# Altium footprint library Miscellaneous Devices LC.PcbLib: 559 footprints (part 20 of 35)
Each footprint in its own frame and in the unit in brackets; x right, y up, seen from the top. Pads: shape width x height; smd on the part's side, far side on the other; paste and mask are expansions set on the pad; w line width, h text height; cw(c..) or ccw(c..) is an arc to the next point about the centre after c.
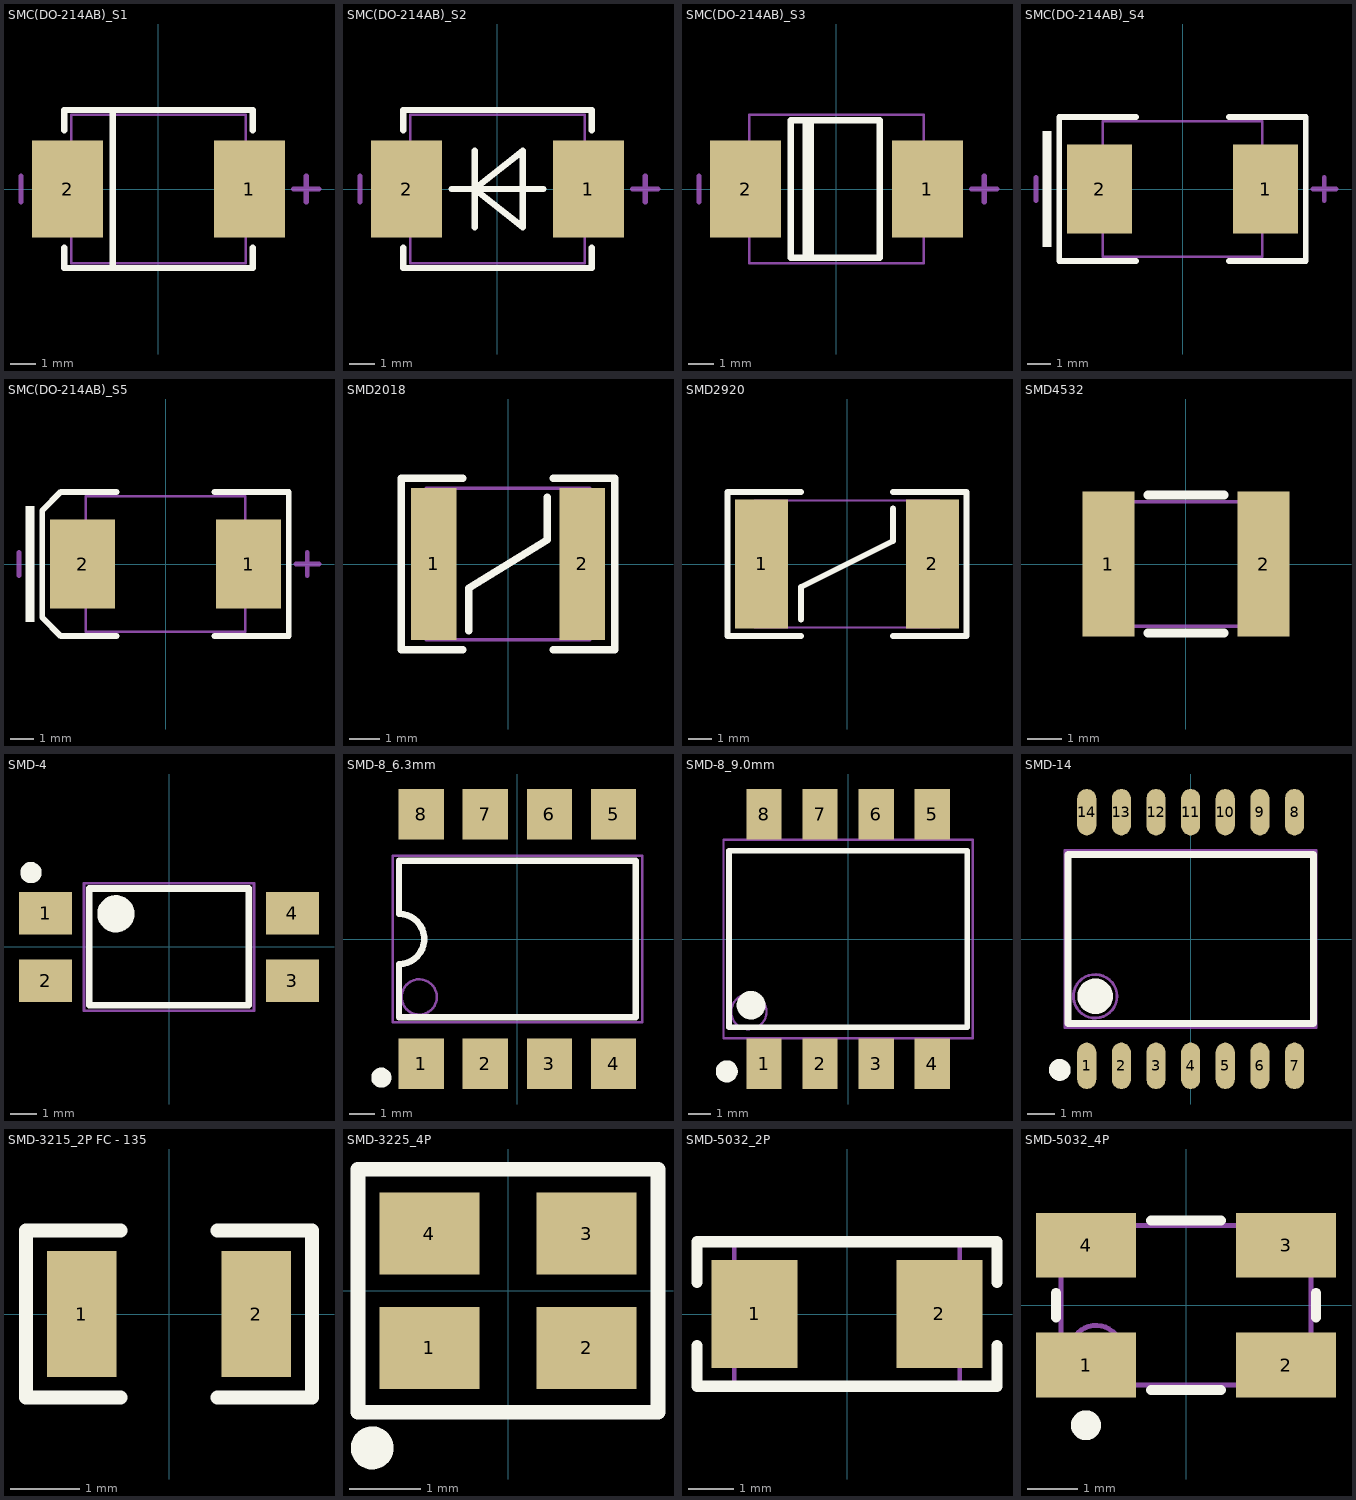
[diagram p19: the footprints below, top view; thin cyan lines are the x and y axes]

## SMC(DO-214AB)_S1 [mil]
pads (2):
  rect 110x150 smd: 1(140.49,0) 2(-140.49,0)
Top Overlay:
  lines w10: -145.67,-90.55 -145.67,-122.05 145.67,-122.05 145.67,-90.55 ; -145.67,90.55 -145.67,122.05 145.67,122.05 145.67,90.55 ; -70.87,-122.05 -70.87,122.05
Mechanical 13:
  lines w3.94: -135.04,-114.96 -135.04,114.96 135.04,114.96 135.04,-114.96 -135.04,-114.96
Mechanical 15:
  lines w8: -212.6,-19.68 -212.6,19.68 ; 208.66,0 248.03,0 ; 228.35,-19.68 228.35,19.68

## SMC(DO-214AB)_S2 [mil]
pads (2):
  rect 110x150 smd: 1(140.49,0) 2(-140.49,0)
Top Overlay:
  lines w10: -145.67,-90.55 -145.67,-122.05 145.67,-122.05 145.67,-90.55 ; -145.67,90.55 -145.67,122.05 145.67,122.05 145.67,90.55 ; -70.87,0 70.87,0 ; -35.43,-59.06 -35.43,59.06 ; -35.43,0 39.37,-59.06 39.37,59.06 -35.43,0
Mechanical 13:
  lines w3.94: -135.04,-114.96 135.04,-114.96 135.04,114.96 -135.04,114.96 -135.04,-114.96
Mechanical 15:
  lines w8: -212.6,-19.68 -212.6,19.68 ; 208.66,0 248.03,0 ; 228.35,-19.68 228.35,19.68

## SMC(DO-214AB)_S3 [mil]
pads (2):
  rect 110x150 smd: 1(140.49,0) 2(-140.49,0)
Top Overlay:
  lines w10: -47.24,-106.3 -47.24,106.3 ; -39.37,-106.3 -39.37,106.3 ; -70.87,-106.3 66.93,-106.3 66.93,106.3 -70.87,106.3 -70.87,-106.3
Mechanical 13:
  lines w3.94: -135.04,-114.96 -135.04,114.96 135.04,114.96 135.04,-114.96 -135.04,-114.96
Mechanical 15:
  lines w8: -212.6,-19.68 -212.6,19.68 ; 208.66,0 248.03,0 ; 228.35,-19.68 228.35,19.68

## SMC(DO-214AB)_S4 [mil]
pads (2):
  rect 110x150 smd: 1(140.49,0) 2(-140.49,0)
Top Overlay:
  rectangle: -237.2,-98.43 -221.46,98.43
  lines w10: -78.74,-122.05 -208.66,-122.05 -208.66,122.05 -78.74,122.05 ; 78.74,-122.05 208.66,-122.05 208.66,122.05 78.74,122.05
Mechanical 13:
  lines w3.94: -135.04,-114.96 135.04,-114.96 135.04,114.96 -135.04,114.96 -135.04,-114.96
Mechanical 15:
  lines w8: -248.03,-19.68 -248.03,19.68 ; 220.47,0 259.84,0 ; 240.16,-19.68 240.16,19.68

## SMC(DO-214AB)_S5 [mil]
pads (2):
  rect 110x150 smd: 1(140.49,0) 2(-140.49,0)
Top Overlay:
  rectangle: -237.2,-98.43 -221.46,98.43
  lines w10: -82.68,-122.05 -177.17,-122.05 -208.66,-90.55 -208.66,90.55 -177.17,122.05 -82.68,122.05 ; 82.68,-122.05 208.66,-122.05 208.66,122.05 82.68,122.05
Mechanical 13:
  lines w3.94: -135.04,-114.96 -135.04,114.96 135.04,114.96 135.04,-114.96 -135.04,-114.96
Mechanical 15:
  lines w8: -248.03,-19.68 -248.03,19.68 ; 220.47,0 259.84,0 ; 240.16,-19.68 240.16,19.68

## SMD2018 [mm]
pads (2):
  rect 1.5x5 smd: 1(-2.45,0) 2(2.45,0)
Top Overlay:
  lines w0.254: -1.5,-2.825 -3.525,-2.825 -3.525,2.825 -1.5,2.825 ; -1.3,-2.2 -1.3,-0.8 1.3,0.8 1.3,2.2 ; 1.5,-2.825 3.525,-2.825 3.525,2.825 1.5,2.825
Mechanical 13:
  lines w0.1: -2.7,-2.5 -2.7,2.5 2.7,2.5 2.7,-2.5 -2.7,-2.5

## SMD2920 [mm]
pads (2):
  rect 2.3x5.6 smd: 1(-3.7,0) 2(3.7,0)
Top Overlay:
  lines w0.254: -2,-3.125 -5.175,-3.125 -5.175,3.125 -2,3.125 ; -2,-2.4 -2,-1 2,1 2,2.4 ; 2,-3.125 5.175,-3.125 5.175,3.125 2,3.125
Mechanical 13:
  lines w0.1: -4,-2.75 -4,2.75 4,2.75 4,-2.75 -4,-2.75

## SMD4532 [mm]
pads (2):
  rect 1.5x4.2 smd: 1(-2.25,0) 2(2.25,0)
Top Overlay:
  lines w0.254: -1.1,-2 1.1,-2 ; -1.1,2 1.1,2
Mechanical 13:
  lines w0.1: -2.4,-1.8 -2.4,1.8 2.4,1.8 2.4,-1.8 -2.4,-1.8

## SMD-4 [mm]
pads (4):
  rect 2x1.6 smd: 1(-4.65,1.27) 2(-4.65,-1.27) 3(4.65,-1.27) 4(4.65,1.27)
Top Overlay:
  circle w0.4: c-5.2,2.8 r0.2
  circle w0.7: c-2,1.25 r0.35
  lines w0.254: -3,-2.2 -3,2.2 3,2.2 3,-2.2 -3,-2.2
Mechanical 13:
  lines w0.1: -3.2,-2.4 3.2,-2.4 3.2,2.4 -3.2,2.4 -3.2,-2.4
3D body "User Library-DIP4_opto_iso.STEP": height 3.9, standoff 0, extent -5.015,-2.416 5.015,2.416

## SMD-8_6.3mm [mm]
pads (8):
  rect 1.8x2 smd: 1(-3.81,-4.95) 2(-1.27,-4.95) 3(1.27,-4.95) 4(3.81,-4.95) 5(3.81,4.95) 6(1.27,4.95) 7(-1.27,4.95) 8(-3.81,4.95)
Top Overlay:
  circle w0.4: c-5.4,-5.5 r0.2
  lines w0.254: -4.7,-3.1 -4.7,-1 ccw(c-4.7,0) -4.7,1 -4.7,3.1 4.7,3.1 4.7,-3.1 -4.7,-3.1
Mechanical 13:
  circle w0.1: c-3.9,-2.3 r0.7
  lines w0.1: -4.95,-3.3 -4.95,3.3 4.95,3.3 4.95,-3.3 -4.95,-3.3

## SMD-8_9.0mm [mm]
pads (8):
  rect 1.6x2.3 smd: 1(-3.81,-5.65) 2(-1.27,-5.65) 3(1.27,-5.65) 4(3.81,-5.65) 5(3.81,5.65) 6(1.27,5.65) 7(-1.27,5.65) 8(-3.81,5.65)
Top Overlay:
  circle w0.5: c-5.5,-6 r0.25
  circle w0.7: c-4.4,-3 r0.3
  lines w0.254: -5.4,-4 5.4,-4 5.4,4 -5.4,4 -5.4,-4
Mechanical 13:
  circle w0.1: c-4.5,-3.3 r0.8
  lines w0.1: -5.65,-4.5 -5.65,4.5 5.65,4.5 5.65,-4.5 -5.65,-4.5

## SMD-14 [mm]
pads (14):
  oval 0.7x1.7 smd: 1(-3.81,-4.65) 2(-2.54,-4.65) 3(-1.27,-4.65) 4(0,-4.65) 5(1.27,-4.65) 6(2.54,-4.65) 7(3.81,-4.65) 8(3.81,4.65) 9(2.54,4.65) 10(1.27,4.65) 11(0,4.65) 12(-1.27,4.65) 13(-2.54,4.65) 14(-3.81,4.65)
Top Overlay:
  circle w0.7: c-3.5,-2.1 r0.3
  circle w0.4: c-4.8,-4.8 r0.2
  lines w0.254: -4.5,-3.1 -4.5,3.1 4.5,3.1 4.5,-3.1 -4.5,-3.1
Mechanical 13:
  circle w0.1: c-3.5,-2.1 r0.8
  lines w0.1: -4.61,-3.25 4.61,-3.25 4.61,3.25 -4.61,3.25 -4.61,-3.25

## SMD-3215_2P FC - 135 [mm]
pads (2):
  rect 1x1.8 smd: 1(-1.25,0) 2(1.25,0)
Top Overlay:
  lines w0.2: -0.695,-1.2 -2.05,-1.2 -2.05,1.2 -0.695,1.2 ; 0.695,-1.2 2.05,-1.2 2.05,1.2 0.695,1.2

## SMD-3225_4P [mm]
pads (4):
  rect 1.4x1.15 smd: 1(-1.1,-0.8) 2(1.1,-0.8) 3(1.1,0.8) 4(-1.1,0.8)
Top Overlay:
  circle w0.3: c-1.9,-2.2 r0.15
  lines w0.203: -2.1,-1.7 -2.1,1.7 2.1,1.7 2.1,-1.7 -2.1,-1.7
3D body "User Library-3225-1.STEP": height 0.61, standoff 0, extent -1.6,-1.25 1.6,1.25

## SMD-5032_2P [mm]
pads (2):
  rect 1.9x2.4 smd: 1(-2.05,0) 2(2.05,0)
Top Overlay:
  lines w0.254: -3.325,-0.7 -3.325,-1.6 3.325,-1.6 3.325,-0.7 ; -3.325,0.7 -3.325,1.6 3.325,1.6 3.325,0.7
Mechanical 13:
  lines w0.1: -2.5,-1.6 -2.5,1.6 2.5,1.6 2.5,-1.6 -2.5,-1.6

## SMD-5032_4P [mm]
pads (4):
  rect 2x1.3 smd: 1(-2,-1.2) 2(2,-1.2) 3(2,1.2) 4(-2,1.2)
Top Overlay:
  circle w0.3: c-2,-2.4 r0.15
  lines w0.2: -2.6,-0.25 -2.6,0.25 ; -0.7,-1.7 0.7,-1.7 ; -0.7,1.7 0.7,1.7 ; 2.6,-0.25 2.6,0.25
Mechanical 13:
  circle w0.1: c-1.8,-0.9 r0.5
  lines w0.1: -2.5,-1.6 -2.5,1.6 2.5,1.6 2.5,-1.6 -2.5,-1.6